# Altium footprint library Connector.PcbLib: 53 footprints (part 2 of 4)
Each footprint in its own frame and in the unit in brackets; x right, y up, seen from the top. Pads: shape width x height; smd on the part's side, far side on the other; paste and mask are expansions set on the pad; w line width, h text height; cw(c..) or ccw(c..) is an arc to the next point about the centre after c.
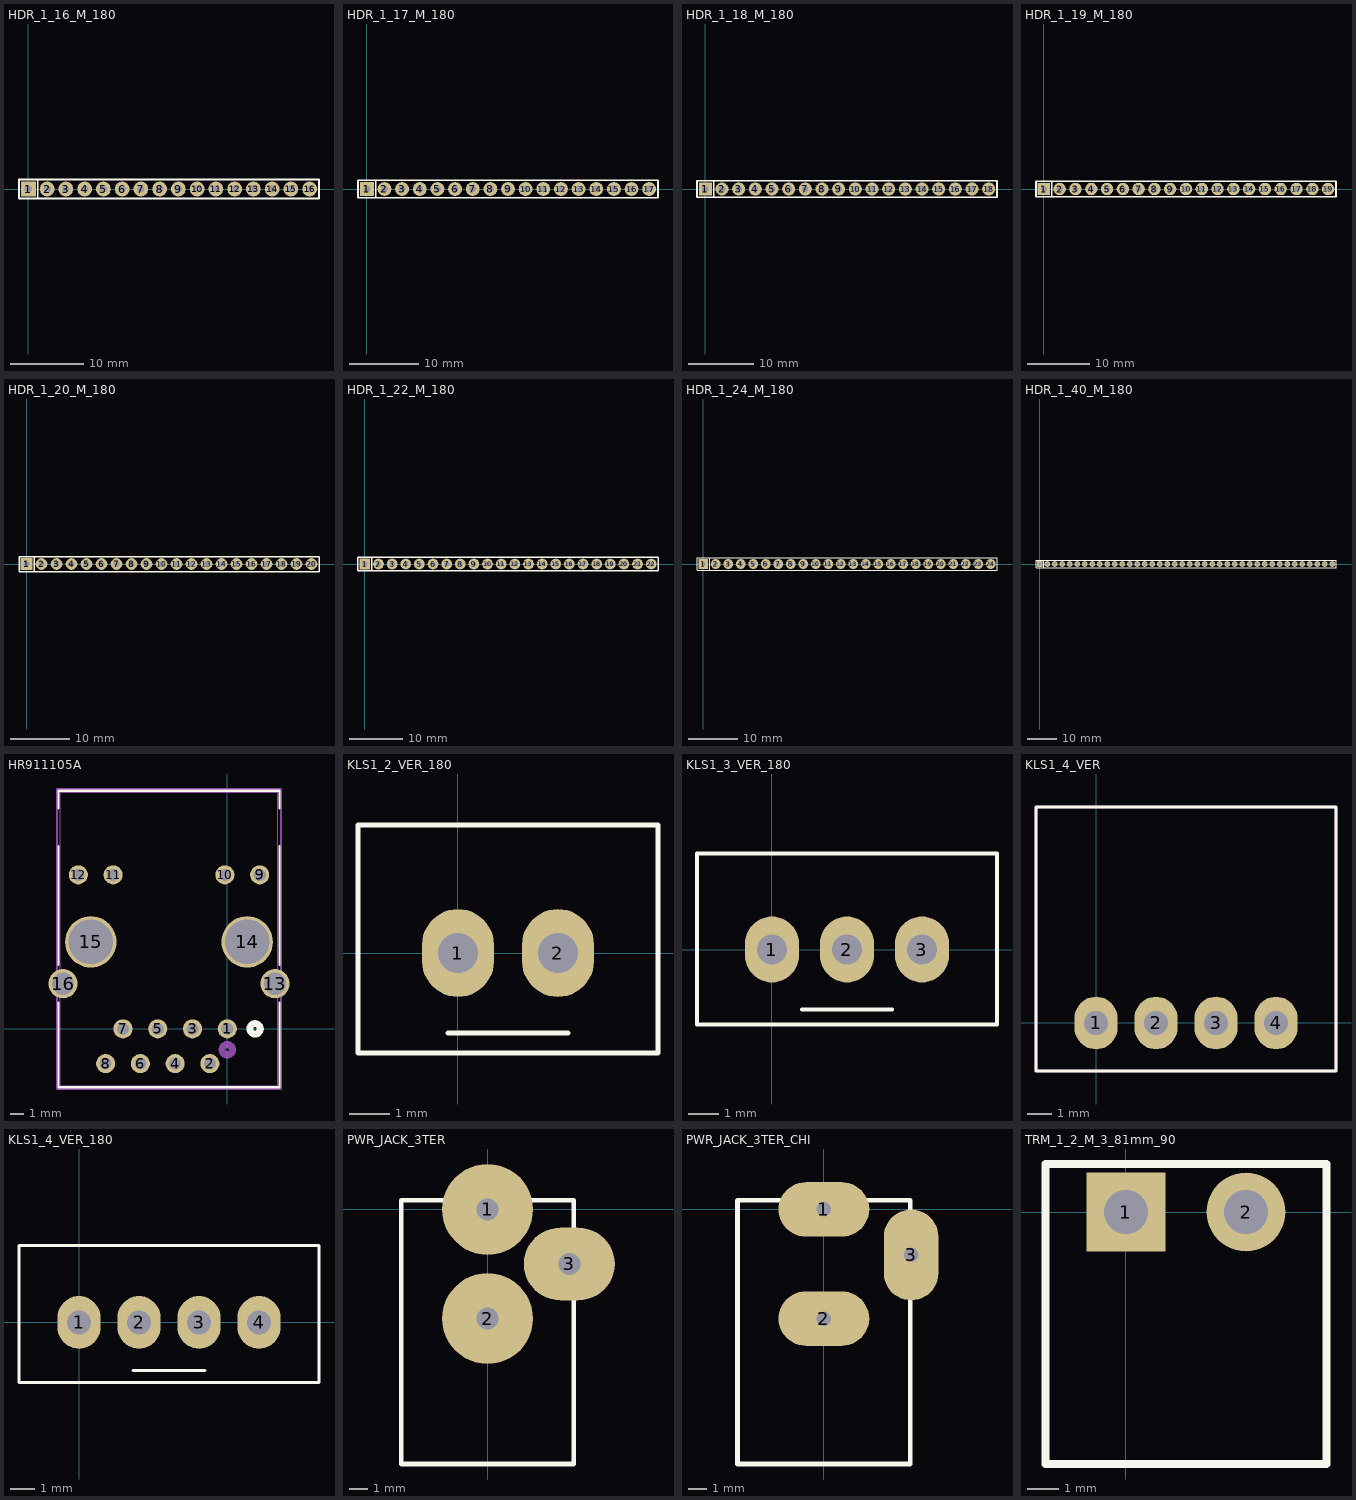
[diagram p1: the footprints below, top view; thin cyan lines are the x and y axes]

## HDR_1_16_M_180 [mm]
pads (16):
  rect 2x2 hole 1: 1(0,0)
  round 2 hole 1: 2(2.54,0) 3(5.08,0) 4(7.62,0) 5(10.16,0) 6(12.7,0) 7(15.24,0) 8(17.78,0) 9(20.32,0) 10(22.86,0) 11(25.4,0) 12(27.94,0) 13(30.48,0) 14(33.02,0) 15(35.56,0) 16(38.1,0)
Top Overlay:
  lines w0.254: 1.27,-1.27 1.27,1.27 ; -1.27,-1.27 39.37,-1.27 39.37,1.27 -1.27,1.27 -1.27,-1.27
3D body "User Library-Header Vertical 2_54mm Pitch2-1.step": height 5.94, standoff -2.94, extent 34.29,-1.27 36.83,1.27
3D body "User Library-Header Vertical 2_54mm Pitch2-1.step": height 5.94, standoff -2.94, extent 31.75,-1.27 34.29,1.27
3D body "User Library-Header Vertical 2_54mm Pitch2-1.step": height 5.94, standoff -2.94, extent 29.21,-1.27 31.75,1.27
3D body "User Library-Header Vertical 2_54mm Pitch2-1.step": height 5.94, standoff -2.94, extent 26.67,-1.27 29.21,1.27
3D body "User Library-Header Vertical 2_54mm Pitch2-1.step": height 5.94, standoff -2.94, extent 24.13,-1.27 26.67,1.27
3D body "User Library-Header Vertical 2_54mm Pitch2-1.step": height 5.94, standoff -2.94, extent 36.83,-1.27 39.37,1.27
3D body "User Library-Header Vertical 2_54mm Pitch2-1.step": height 5.94, standoff -2.94, extent 8.89,-1.27 11.43,1.27
3D body "User Library-Header Vertical 2_54mm Pitch2-1.step": height 5.94, standoff -2.94, extent 6.35,-1.27 8.89,1.27
3D body "User Library-Header Vertical 2_54mm Pitch2-1.step": height 5.94, standoff -2.94, extent 3.81,-1.27 6.35,1.27
3D body "User Library-Header Vertical 2_54mm Pitch2-1.step": height 5.94, standoff -2.94, extent 1.27,-1.27 3.81,1.27
3D body "User Library-Header Vertical 2_54mm Pitch2-1.step": height 5.94, standoff -2.94, extent -1.27,-1.27 1.27,1.27
3D body "User Library-Header Vertical 2_54mm Pitch2-1.step": height 5.94, standoff -2.94, extent 11.43,-1.27 13.97,1.27
3D body "User Library-Header Vertical 2_54mm Pitch2-1.step": height 5.94, standoff -2.94, extent 13.97,-1.27 16.51,1.27
3D body "User Library-Header Vertical 2_54mm Pitch2-1.step": height 5.94, standoff -2.94, extent 16.51,-1.27 19.05,1.27
3D body "User Library-Header Vertical 2_54mm Pitch2-1.step": height 5.94, standoff -2.94, extent 19.05,-1.27 21.59,1.27
3D body "User Library-Header Vertical 2_54mm Pitch2-1.step": height 5.94, standoff -2.94, extent 21.59,-1.27 24.13,1.27

## HDR_1_17_M_180 [mm]
pads (17):
  rect 2x2 hole 1: 1(0,0)
  round 2 hole 1: 2(2.54,0) 3(5.08,0) 4(7.62,0) 5(10.16,0) 6(12.7,0) 7(15.24,0) 8(17.78,0) 9(20.32,0) 10(22.86,0) 11(25.4,0) 12(27.94,0) 13(30.48,0) 14(33.02,0) 15(35.56,0) 16(38.1,0) 17(40.64,0)
Top Overlay:
  lines w0.254: 1.27,-1.27 1.27,1.27 ; -1.27,-1.27 41.91,-1.27 41.91,1.27 -1.27,1.27 -1.27,-1.27
3D body "User Library-Header Vertical 2_54mm Pitch2-1.step": height 5.94, standoff -2.94, extent 34.29,-1.27 36.83,1.27
3D body "User Library-Header Vertical 2_54mm Pitch2-1.step": height 5.94, standoff -2.94, extent 31.75,-1.27 34.29,1.27
3D body "User Library-Header Vertical 2_54mm Pitch2-1.step": height 5.94, standoff -2.94, extent 29.21,-1.27 31.75,1.27
3D body "User Library-Header Vertical 2_54mm Pitch2-1.step": height 5.94, standoff -2.94, extent 26.67,-1.27 29.21,1.27
3D body "User Library-Header Vertical 2_54mm Pitch2-1.step": height 5.94, standoff -2.94, extent 24.13,-1.27 26.67,1.27
3D body "User Library-Header Vertical 2_54mm Pitch2-1.step": height 5.94, standoff -2.94, extent 39.37,-1.27 41.91,1.27
3D body "User Library-Header Vertical 2_54mm Pitch2-1.step": height 5.94, standoff -2.94, extent 36.83,-1.27 39.37,1.27
3D body "User Library-Header Vertical 2_54mm Pitch2-1.step": height 5.94, standoff -2.94, extent 8.89,-1.27 11.43,1.27
3D body "User Library-Header Vertical 2_54mm Pitch2-1.step": height 5.94, standoff -2.94, extent 6.35,-1.27 8.89,1.27
3D body "User Library-Header Vertical 2_54mm Pitch2-1.step": height 5.94, standoff -2.94, extent 3.81,-1.27 6.35,1.27
3D body "User Library-Header Vertical 2_54mm Pitch2-1.step": height 5.94, standoff -2.94, extent 1.27,-1.27 3.81,1.27
3D body "User Library-Header Vertical 2_54mm Pitch2-1.step": height 5.94, standoff -2.94, extent -1.27,-1.27 1.27,1.27
3D body "User Library-Header Vertical 2_54mm Pitch2-1.step": height 5.94, standoff -2.94, extent 11.43,-1.27 13.97,1.27
3D body "User Library-Header Vertical 2_54mm Pitch2-1.step": height 5.94, standoff -2.94, extent 13.97,-1.27 16.51,1.27
3D body "User Library-Header Vertical 2_54mm Pitch2-1.step": height 5.94, standoff -2.94, extent 16.51,-1.27 19.05,1.27
3D body "User Library-Header Vertical 2_54mm Pitch2-1.step": height 5.94, standoff -2.94, extent 19.05,-1.27 21.59,1.27
3D body "User Library-Header Vertical 2_54mm Pitch2-1.step": height 5.94, standoff -2.94, extent 21.59,-1.27 24.13,1.27

## HDR_1_18_M_180 [mm]
pads (18):
  rect 2x2 hole 1: 1(0,0)
  round 2 hole 1: 2(2.54,0) 3(5.08,0) 4(7.62,0) 5(10.16,0) 6(12.7,0) 7(15.24,0) 8(17.78,0) 9(20.32,0) 10(22.86,0) 11(25.4,0) 12(27.94,0) 13(30.48,0) 14(33.02,0) 15(35.56,0) 16(38.1,0) 17(40.64,0) 18(43.18,0)
Top Overlay:
  lines w0.254: 1.27,-1.27 1.27,1.27 ; -1.27,-1.27 -1.27,1.27 44.45,1.27 44.45,-1.27 -1.27,-1.27
3D body "User Library-Header Vertical 2_54mm Pitch2-1.step": height 5.94, standoff -2.94, extent 41.91,-1.27 44.45,1.27
3D body "User Library-Header Vertical 2_54mm Pitch2-1.step": height 5.94, standoff -2.94, extent 21.59,-1.27 24.13,1.27
3D body "User Library-Header Vertical 2_54mm Pitch2-1.step": height 5.94, standoff -2.94, extent 19.05,-1.27 21.59,1.27
3D body "User Library-Header Vertical 2_54mm Pitch2-1.step": height 5.94, standoff -2.94, extent 16.51,-1.27 19.05,1.27
3D body "User Library-Header Vertical 2_54mm Pitch2-1.step": height 5.94, standoff -2.94, extent 13.97,-1.27 16.51,1.27
3D body "User Library-Header Vertical 2_54mm Pitch2-1.step": height 5.94, standoff -2.94, extent 11.43,-1.27 13.97,1.27
3D body "User Library-Header Vertical 2_54mm Pitch2-1.step": height 5.94, standoff -2.94, extent -1.27,-1.27 1.27,1.27
3D body "User Library-Header Vertical 2_54mm Pitch2-1.step": height 5.94, standoff -2.94, extent 1.27,-1.27 3.81,1.27
3D body "User Library-Header Vertical 2_54mm Pitch2-1.step": height 5.94, standoff -2.94, extent 3.81,-1.27 6.35,1.27
3D body "User Library-Header Vertical 2_54mm Pitch2-1.step": height 5.94, standoff -2.94, extent 6.35,-1.27 8.89,1.27
3D body "User Library-Header Vertical 2_54mm Pitch2-1.step": height 5.94, standoff -2.94, extent 8.89,-1.27 11.43,1.27
3D body "User Library-Header Vertical 2_54mm Pitch2-1.step": height 5.94, standoff -2.94, extent 36.83,-1.27 39.37,1.27
3D body "User Library-Header Vertical 2_54mm Pitch2-1.step": height 5.94, standoff -2.94, extent 39.37,-1.27 41.91,1.27
3D body "User Library-Header Vertical 2_54mm Pitch2-1.step": height 5.94, standoff -2.94, extent 24.13,-1.27 26.67,1.27
3D body "User Library-Header Vertical 2_54mm Pitch2-1.step": height 5.94, standoff -2.94, extent 26.67,-1.27 29.21,1.27
3D body "User Library-Header Vertical 2_54mm Pitch2-1.step": height 5.94, standoff -2.94, extent 29.21,-1.27 31.75,1.27
3D body "User Library-Header Vertical 2_54mm Pitch2-1.step": height 5.94, standoff -2.94, extent 31.75,-1.27 34.29,1.27
3D body "User Library-Header Vertical 2_54mm Pitch2-1.step": height 5.94, standoff -2.94, extent 34.29,-1.27 36.83,1.27

## HDR_1_19_M_180 [mm]
pads (19):
  rect 2x2 hole 1: 1(0,0)
  round 2 hole 1: 2(2.54,0) 3(5.08,0) 4(7.62,0) 5(10.16,0) 6(12.7,0) 7(15.24,0) 8(17.78,0) 9(20.32,0) 10(22.86,0) 11(25.4,0) 12(27.94,0) 13(30.48,0) 14(33.02,0) 15(35.56,0) 16(38.1,0) 17(40.64,0) 18(43.18,0) 19(45.72,0)
Top Overlay:
  lines w0.254: 1.27,-1.27 1.27,1.27 ; -1.27,-1.27 -1.27,1.27 46.99,1.27 46.99,-1.27 -1.27,-1.27
3D body "User Library-Header Vertical 2_54mm Pitch2-1.step": height 5.94, standoff -2.94, extent 21.59,-1.27 24.13,1.27
3D body "User Library-Header Vertical 2_54mm Pitch2-1.step": height 5.94, standoff -2.94, extent 19.05,-1.27 21.59,1.27
3D body "User Library-Header Vertical 2_54mm Pitch2-1.step": height 5.94, standoff -2.94, extent 16.51,-1.27 19.05,1.27
3D body "User Library-Header Vertical 2_54mm Pitch2-1.step": height 5.94, standoff -2.94, extent 13.97,-1.27 16.51,1.27
3D body "User Library-Header Vertical 2_54mm Pitch2-1.step": height 5.94, standoff -2.94, extent 11.43,-1.27 13.97,1.27
3D body "User Library-Header Vertical 2_54mm Pitch2-1.step": height 5.94, standoff -2.94, extent -1.27,-1.27 1.27,1.27
3D body "User Library-Header Vertical 2_54mm Pitch2-1.step": height 5.94, standoff -2.94, extent 1.27,-1.27 3.81,1.27
3D body "User Library-Header Vertical 2_54mm Pitch2-1.step": height 5.94, standoff -2.94, extent 3.81,-1.27 6.35,1.27
3D body "User Library-Header Vertical 2_54mm Pitch2-1.step": height 5.94, standoff -2.94, extent 6.35,-1.27 8.89,1.27
3D body "User Library-Header Vertical 2_54mm Pitch2-1.step": height 5.94, standoff -2.94, extent 8.89,-1.27 11.43,1.27
3D body "User Library-Header Vertical 2_54mm Pitch2-1.step": height 5.94, standoff -2.94, extent 36.83,-1.27 39.37,1.27
3D body "User Library-Header Vertical 2_54mm Pitch2-1.step": height 5.94, standoff -2.94, extent 39.37,-1.27 41.91,1.27
3D body "User Library-Header Vertical 2_54mm Pitch2-1.step": height 5.94, standoff -2.94, extent 41.91,-1.27 44.45,1.27
3D body "User Library-Header Vertical 2_54mm Pitch2-1.step": height 5.94, standoff -2.94, extent 44.45,-1.27 46.99,1.27
3D body "User Library-Header Vertical 2_54mm Pitch2-1.step": height 5.94, standoff -2.94, extent 24.13,-1.27 26.67,1.27
3D body "User Library-Header Vertical 2_54mm Pitch2-1.step": height 5.94, standoff -2.94, extent 26.67,-1.27 29.21,1.27
3D body "User Library-Header Vertical 2_54mm Pitch2-1.step": height 5.94, standoff -2.94, extent 29.21,-1.27 31.75,1.27
3D body "User Library-Header Vertical 2_54mm Pitch2-1.step": height 5.94, standoff -2.94, extent 31.75,-1.27 34.29,1.27
3D body "User Library-Header Vertical 2_54mm Pitch2-1.step": height 5.94, standoff -2.94, extent 34.29,-1.27 36.83,1.27

## HDR_1_20_M_180 [mm]
pads (20):
  rect 2x2 hole 1: 1(0,0)
  round 2 hole 1: 2(2.54,0) 3(5.08,0) 4(7.62,0) 5(10.16,0) 6(12.7,0) 7(15.24,0) 8(17.78,0) 9(20.32,0) 10(22.86,0) 11(25.4,0) 12(27.94,0) 13(30.48,0) 14(33.02,0) 15(35.56,0) 16(38.1,0) 17(40.64,0) 18(43.18,0) 19(45.72,0) 20(48.26,0)
Top Overlay:
  lines w0.254: 1.27,-1.27 1.27,1.27 ; -1.27,-1.27 -1.27,1.27 49.53,1.27 49.53,-1.27 -1.27,-1.27
3D body "User Library-Header Vertical 2_54mm Pitch2-1.step": height 5.94, standoff -2.94, extent 21.59,-1.27 24.13,1.27
3D body "User Library-Header Vertical 2_54mm Pitch2-1.step": height 5.94, standoff -2.94, extent 19.05,-1.27 21.59,1.27
3D body "User Library-Header Vertical 2_54mm Pitch2-1.step": height 5.94, standoff -2.94, extent 16.51,-1.27 19.05,1.27
3D body "User Library-Header Vertical 2_54mm Pitch2-1.step": height 5.94, standoff -2.94, extent 13.97,-1.27 16.51,1.27
3D body "User Library-Header Vertical 2_54mm Pitch2-1.step": height 5.94, standoff -2.94, extent 11.43,-1.27 13.97,1.27
3D body "User Library-Header Vertical 2_54mm Pitch2-1.step": height 5.94, standoff -2.94, extent -1.27,-1.27 1.27,1.27
3D body "User Library-Header Vertical 2_54mm Pitch2-1.step": height 5.94, standoff -2.94, extent 1.27,-1.27 3.81,1.27
3D body "User Library-Header Vertical 2_54mm Pitch2-1.step": height 5.94, standoff -2.94, extent 3.81,-1.27 6.35,1.27
3D body "User Library-Header Vertical 2_54mm Pitch2-1.step": height 5.94, standoff -2.94, extent 6.35,-1.27 8.89,1.27
3D body "User Library-Header Vertical 2_54mm Pitch2-1.step": height 5.94, standoff -2.94, extent 8.89,-1.27 11.43,1.27
3D body "User Library-Header Vertical 2_54mm Pitch2-1.step": height 5.94, standoff -2.94, extent 36.83,-1.27 39.37,1.27
3D body "User Library-Header Vertical 2_54mm Pitch2-1.step": height 5.94, standoff -2.94, extent 39.37,-1.27 41.91,1.27
3D body "User Library-Header Vertical 2_54mm Pitch2-1.step": height 5.94, standoff -2.94, extent 41.91,-1.27 44.45,1.27
3D body "User Library-Header Vertical 2_54mm Pitch2-1.step": height 5.94, standoff -2.94, extent 44.45,-1.27 46.99,1.27
3D body "User Library-Header Vertical 2_54mm Pitch2-1.step": height 5.94, standoff -2.94, extent 46.99,-1.27 49.53,1.27
3D body "User Library-Header Vertical 2_54mm Pitch2-1.step": height 5.94, standoff -2.94, extent 24.13,-1.27 26.67,1.27
3D body "User Library-Header Vertical 2_54mm Pitch2-1.step": height 5.94, standoff -2.94, extent 26.67,-1.27 29.21,1.27
3D body "User Library-Header Vertical 2_54mm Pitch2-1.step": height 5.94, standoff -2.94, extent 29.21,-1.27 31.75,1.27
3D body "User Library-Header Vertical 2_54mm Pitch2-1.step": height 5.94, standoff -2.94, extent 31.75,-1.27 34.29,1.27
3D body "User Library-Header Vertical 2_54mm Pitch2-1.step": height 5.94, standoff -2.94, extent 34.29,-1.27 36.83,1.27

## HDR_1_22_M_180 [mm]
pads (22):
  rect 2x2 hole 1: 1(0,0)
  round 2 hole 1: 2(2.54,0) 3(5.08,0) 4(7.62,0) 5(10.16,0) 6(12.7,0) 7(15.24,0) 8(17.78,0) 9(20.32,0) 10(22.86,0) 11(25.4,0) 12(27.94,0) 13(30.48,0) 14(33.02,0) 15(35.56,0) 16(38.1,0) 17(40.64,0) 18(43.18,0) 19(45.72,0) 20(48.26,0) 21(50.8,0) 22(53.34,0)
Top Overlay:
  lines w0.254: 1.27,-1.27 1.27,1.27 ; -1.27,-1.27 -1.27,1.27 54.61,1.27 54.61,-1.27 -1.27,-1.27
3D body "User Library-Header Vertical 2_54mm Pitch2-1.step": height 5.94, standoff -2.94, extent 52.07,-1.27 54.61,1.27
3D body "User Library-Header Vertical 2_54mm Pitch2-1.step": height 5.94, standoff -2.94, extent 49.53,-1.27 52.07,1.27
3D body "User Library-Header Vertical 2_54mm Pitch2-1.step": height 5.94, standoff -2.94, extent 21.59,-1.27 24.13,1.27
3D body "User Library-Header Vertical 2_54mm Pitch2-1.step": height 5.94, standoff -2.94, extent 19.05,-1.27 21.59,1.27
3D body "User Library-Header Vertical 2_54mm Pitch2-1.step": height 5.94, standoff -2.94, extent 16.51,-1.27 19.05,1.27
3D body "User Library-Header Vertical 2_54mm Pitch2-1.step": height 5.94, standoff -2.94, extent 13.97,-1.27 16.51,1.27
3D body "User Library-Header Vertical 2_54mm Pitch2-1.step": height 5.94, standoff -2.94, extent 11.43,-1.27 13.97,1.27
3D body "User Library-Header Vertical 2_54mm Pitch2-1.step": height 5.94, standoff -2.94, extent -1.27,-1.27 1.27,1.27
3D body "User Library-Header Vertical 2_54mm Pitch2-1.step": height 5.94, standoff -2.94, extent 1.27,-1.27 3.81,1.27
3D body "User Library-Header Vertical 2_54mm Pitch2-1.step": height 5.94, standoff -2.94, extent 3.81,-1.27 6.35,1.27
3D body "User Library-Header Vertical 2_54mm Pitch2-1.step": height 5.94, standoff -2.94, extent 6.35,-1.27 8.89,1.27
3D body "User Library-Header Vertical 2_54mm Pitch2-1.step": height 5.94, standoff -2.94, extent 8.89,-1.27 11.43,1.27
3D body "User Library-Header Vertical 2_54mm Pitch2-1.step": height 5.94, standoff -2.94, extent 36.83,-1.27 39.37,1.27
3D body "User Library-Header Vertical 2_54mm Pitch2-1.step": height 5.94, standoff -2.94, extent 39.37,-1.27 41.91,1.27
3D body "User Library-Header Vertical 2_54mm Pitch2-1.step": height 5.94, standoff -2.94, extent 41.91,-1.27 44.45,1.27
3D body "User Library-Header Vertical 2_54mm Pitch2-1.step": height 5.94, standoff -2.94, extent 44.45,-1.27 46.99,1.27
3D body "User Library-Header Vertical 2_54mm Pitch2-1.step": height 5.94, standoff -2.94, extent 46.99,-1.27 49.53,1.27
3D body "User Library-Header Vertical 2_54mm Pitch2-1.step": height 5.94, standoff -2.94, extent 24.13,-1.27 26.67,1.27
3D body "User Library-Header Vertical 2_54mm Pitch2-1.step": height 5.94, standoff -2.94, extent 26.67,-1.27 29.21,1.27
3D body "User Library-Header Vertical 2_54mm Pitch2-1.step": height 5.94, standoff -2.94, extent 29.21,-1.27 31.75,1.27
3D body "User Library-Header Vertical 2_54mm Pitch2-1.step": height 5.94, standoff -2.94, extent 31.75,-1.27 34.29,1.27
3D body "User Library-Header Vertical 2_54mm Pitch2-1.step": height 5.94, standoff -2.94, extent 34.29,-1.27 36.83,1.27

## HDR_1_24_M_180 [mm]
pads (24):
  rect 2x2 hole 1: 1(0,0)
  round 2 hole 1: 2(2.54,0) 3(5.08,0) 4(7.62,0) 5(10.16,0) 6(12.7,0) 7(15.24,0) 8(17.78,0) 9(20.32,0) 10(22.86,0) 11(25.4,0) 12(27.94,0) 13(30.48,0) 14(33.02,0) 15(35.56,0) 16(38.1,0) 17(40.64,0) 18(43.18,0) 19(45.72,0) 20(48.26,0) 21(50.8,0) 22(53.34,0) 23(55.88,0) 24(58.42,0)
Top Overlay:
  lines w0.254: 1.27,-1.27 1.27,1.27 ; -1.27,-1.27 -1.27,1.27 59.69,1.27 59.69,-1.27 -1.27,-1.27
3D body "User Library-Header Vertical 2_54mm Pitch2-1.step": height 5.94, standoff -2.94, extent 49.53,-1.27 52.07,1.27
3D body "User Library-Header Vertical 2_54mm Pitch2-1.step": height 5.94, standoff -2.94, extent 21.59,-1.27 24.13,1.27
3D body "User Library-Header Vertical 2_54mm Pitch2-1.step": height 5.94, standoff -2.94, extent 19.05,-1.27 21.59,1.27
3D body "User Library-Header Vertical 2_54mm Pitch2-1.step": height 5.94, standoff -2.94, extent 16.51,-1.27 19.05,1.27
3D body "User Library-Header Vertical 2_54mm Pitch2-1.step": height 5.94, standoff -2.94, extent 13.97,-1.27 16.51,1.27
3D body "User Library-Header Vertical 2_54mm Pitch2-1.step": height 5.94, standoff -2.94, extent 11.43,-1.27 13.97,1.27
3D body "User Library-Header Vertical 2_54mm Pitch2-1.step": height 5.94, standoff -2.94, extent -1.27,-1.27 1.27,1.27
3D body "User Library-Header Vertical 2_54mm Pitch2-1.step": height 5.94, standoff -2.94, extent 1.27,-1.27 3.81,1.27
3D body "User Library-Header Vertical 2_54mm Pitch2-1.step": height 5.94, standoff -2.94, extent 3.81,-1.27 6.35,1.27
3D body "User Library-Header Vertical 2_54mm Pitch2-1.step": height 5.94, standoff -2.94, extent 6.35,-1.27 8.89,1.27
3D body "User Library-Header Vertical 2_54mm Pitch2-1.step": height 5.94, standoff -2.94, extent 8.89,-1.27 11.43,1.27
3D body "User Library-Header Vertical 2_54mm Pitch2-1.step": height 5.94, standoff -2.94, extent 36.83,-1.27 39.37,1.27
3D body "User Library-Header Vertical 2_54mm Pitch2-1.step": height 5.94, standoff -2.94, extent 39.37,-1.27 41.91,1.27
3D body "User Library-Header Vertical 2_54mm Pitch2-1.step": height 5.94, standoff -2.94, extent 41.91,-1.27 44.45,1.27
3D body "User Library-Header Vertical 2_54mm Pitch2-1.step": height 5.94, standoff -2.94, extent 44.45,-1.27 46.99,1.27
3D body "User Library-Header Vertical 2_54mm Pitch2-1.step": height 5.94, standoff -2.94, extent 46.99,-1.27 49.53,1.27
3D body "User Library-Header Vertical 2_54mm Pitch2-1.step": height 5.94, standoff -2.94, extent 24.13,-1.27 26.67,1.27
3D body "User Library-Header Vertical 2_54mm Pitch2-1.step": height 5.94, standoff -2.94, extent 26.67,-1.27 29.21,1.27
3D body "User Library-Header Vertical 2_54mm Pitch2-1.step": height 5.94, standoff -2.94, extent 29.21,-1.27 31.75,1.27
3D body "User Library-Header Vertical 2_54mm Pitch2-1.step": height 5.94, standoff -2.94, extent 31.75,-1.27 34.29,1.27
3D body "User Library-Header Vertical 2_54mm Pitch2-1.step": height 5.94, standoff -2.94, extent 34.29,-1.27 36.83,1.27
3D body "User Library-Header Vertical 2_54mm Pitch2-1.step": height 5.94, standoff -2.94, extent 54.61,-1.27 57.15,1.27
3D body "User Library-Header Vertical 2_54mm Pitch2-1.step": height 5.94, standoff -2.94, extent 52.07,-1.27 54.61,1.27
3D body "User Library-Header Vertical 2_54mm Pitch2-1.step": height 5.94, standoff -2.94, extent 57.15,-1.27 59.69,1.27

## HDR_1_40_M_180 [mm]
pads (40):
  rect 2x2 hole 1: 1(0,0)
  round 2 hole 1: 2(2.54,0) 3(5.08,0) 4(7.62,0) 5(10.16,0) 6(12.7,0) 7(15.24,0) 8(17.78,0) 9(20.32,0) 10(22.86,0) 11(25.4,0) 12(27.94,0) 13(30.48,0) 14(33.02,0) 15(35.56,0) 16(38.1,0) 17(40.64,0) 18(43.18,0) 19(45.72,0) 20(48.26,0) 21(50.8,0) 22(53.34,0) 23(55.88,0) 24(58.42,0) 25(60.96,0) 26(63.5,0) 27(66.04,0) 28(68.58,0) 29(71.12,0) 30(73.66,0) 31(76.2,0) 32(78.74,0) 33(81.28,0) 34(83.82,0) 35(86.36,0) 36(88.9,0) 37(91.44,0) 38(93.98,0) 39(96.52,0) 40(99.06,0)
Top Overlay:
  lines w0.254: 1.27,-1.27 1.27,1.27 ; -1.27,-1.27 -1.27,1.27 100.33,1.27 100.33,-1.27 -1.27,-1.27
3D body "User Library-Header Vertical 2_54mm Pitch2-1.step": height 5.94, standoff -2.94, extent 49.53,-1.27 52.07,1.27
3D body "User Library-Header Vertical 2_54mm Pitch2-1.step": height 5.94, standoff -2.94, extent 97.79,-1.27 100.33,1.27
3D body "User Library-Header Vertical 2_54mm Pitch2-1.step": height 5.94, standoff -2.94, extent 95.25,-1.27 97.79,1.27
3D body "User Library-Header Vertical 2_54mm Pitch2-1.step": height 5.94, standoff -2.94, extent 92.71,-1.27 95.25,1.27
3D body "User Library-Header Vertical 2_54mm Pitch2-1.step": height 5.94, standoff -2.94, extent 90.17,-1.27 92.71,1.27
3D body "User Library-Header Vertical 2_54mm Pitch2-1.step": height 5.94, standoff -2.94, extent 87.63,-1.27 90.17,1.27
3D body "User Library-Header Vertical 2_54mm Pitch2-1.step": height 5.94, standoff -2.94, extent 85.09,-1.27 87.63,1.27
3D body "User Library-Header Vertical 2_54mm Pitch2-1.step": height 5.94, standoff -2.94, extent 82.55,-1.27 85.09,1.27
3D body "User Library-Header Vertical 2_54mm Pitch2-1.step": height 5.94, standoff -2.94, extent 80.01,-1.27 82.55,1.27
3D body "User Library-Header Vertical 2_54mm Pitch2-1.step": height 5.94, standoff -2.94, extent 77.47,-1.27 80.01,1.27
3D body "User Library-Header Vertical 2_54mm Pitch2-1.step": height 5.94, standoff -2.94, extent 74.93,-1.27 77.47,1.27
3D body "User Library-Header Vertical 2_54mm Pitch2-1.step": height 5.94, standoff -2.94, extent 72.39,-1.27 74.93,1.27
3D body "User Library-Header Vertical 2_54mm Pitch2-1.step": height 5.94, standoff -2.94, extent 69.85,-1.27 72.39,1.27
3D body "User Library-Header Vertical 2_54mm Pitch2-1.step": height 5.94, standoff -2.94, extent 67.31,-1.27 69.85,1.27
3D body "User Library-Header Vertical 2_54mm Pitch2-1.step": height 5.94, standoff -2.94, extent 64.77,-1.27 67.31,1.27
3D body "User Library-Header Vertical 2_54mm Pitch2-1.step": height 5.94, standoff -2.94, extent 62.23,-1.27 64.77,1.27
3D body "User Library-Header Vertical 2_54mm Pitch2-1.step": height 5.94, standoff -2.94, extent 59.69,-1.27 62.23,1.27
3D body "User Library-Header Vertical 2_54mm Pitch2-1.step": height 5.94, standoff -2.94, extent 57.15,-1.27 59.69,1.27
3D body "User Library-Header Vertical 2_54mm Pitch2-1.step": height 5.94, standoff -2.94, extent 54.61,-1.27 57.15,1.27
3D body "User Library-Header Vertical 2_54mm Pitch2-1.step": height 5.94, standoff -2.94, extent 52.07,-1.27 54.61,1.27
3D body "User Library-Header Vertical 2_54mm Pitch2-1.step": height 5.94, standoff -2.94, extent 21.59,-1.27 24.13,1.27
3D body "User Library-Header Vertical 2_54mm Pitch2-1.step": height 5.94, standoff -2.94, extent 19.05,-1.27 21.59,1.27
3D body "User Library-Header Vertical 2_54mm Pitch2-1.step": height 5.94, standoff -2.94, extent 16.51,-1.27 19.05,1.27
3D body "User Library-Header Vertical 2_54mm Pitch2-1.step": height 5.94, standoff -2.94, extent 13.97,-1.27 16.51,1.27
3D body "User Library-Header Vertical 2_54mm Pitch2-1.step": height 5.94, standoff -2.94, extent 11.43,-1.27 13.97,1.27
3D body "User Library-Header Vertical 2_54mm Pitch2-1.step": height 5.94, standoff -2.94, extent -1.27,-1.27 1.27,1.27
3D body "User Library-Header Vertical 2_54mm Pitch2-1.step": height 5.94, standoff -2.94, extent 1.27,-1.27 3.81,1.27
3D body "User Library-Header Vertical 2_54mm Pitch2-1.step": height 5.94, standoff -2.94, extent 3.81,-1.27 6.35,1.27
3D body "User Library-Header Vertical 2_54mm Pitch2-1.step": height 5.94, standoff -2.94, extent 6.35,-1.27 8.89,1.27
3D body "User Library-Header Vertical 2_54mm Pitch2-1.step": height 5.94, standoff -2.94, extent 8.89,-1.27 11.43,1.27
3D body "User Library-Header Vertical 2_54mm Pitch2-1.step": height 5.94, standoff -2.94, extent 36.83,-1.27 39.37,1.27
3D body "User Library-Header Vertical 2_54mm Pitch2-1.step": height 5.94, standoff -2.94, extent 39.37,-1.27 41.91,1.27
3D body "User Library-Header Vertical 2_54mm Pitch2-1.step": height 5.94, standoff -2.94, extent 41.91,-1.27 44.45,1.27
3D body "User Library-Header Vertical 2_54mm Pitch2-1.step": height 5.94, standoff -2.94, extent 44.45,-1.27 46.99,1.27
3D body "User Library-Header Vertical 2_54mm Pitch2-1.step": height 5.94, standoff -2.94, extent 46.99,-1.27 49.53,1.27
3D body "User Library-Header Vertical 2_54mm Pitch2-1.step": height 5.94, standoff -2.94, extent 24.13,-1.27 26.67,1.27
3D body "User Library-Header Vertical 2_54mm Pitch2-1.step": height 5.94, standoff -2.94, extent 26.67,-1.27 29.21,1.27
3D body "User Library-Header Vertical 2_54mm Pitch2-1.step": height 5.94, standoff -2.94, extent 29.21,-1.27 31.75,1.27
3D body "User Library-Header Vertical 2_54mm Pitch2-1.step": height 5.94, standoff -2.94, extent 31.75,-1.27 34.29,1.27
3D body "User Library-Header Vertical 2_54mm Pitch2-1.step": height 5.94, standoff -2.94, extent 34.29,-1.27 36.83,1.27

## HR911105A [mil]
pads (16):
  round 55 hole 35 mask+0: 1(0,0) 2(-50,-100) 3(-100,0) 4(-150,-100) 5(-200,0) 6(-250,-100) 7(-300,0) 8(-350,-100) 9(93.19,442.91) 10(-6.81,442.91) 11(-328.46,442.91) 12(-428.46,442.91)
  round 84 hole 64: 13(137.28,129.92) 16(-472.56,129.92)
  round 148 hole 128: 14(57.36,250) 15(-392.64,250)
Top Overlay:
  circle w20: c80,0 r15
  lines w6: -485.14,76.28 -485.14,-168.08 149.86,-168.08 149.86,76.28 ; -485.14,183.57 -485.14,526.28 ; -485.14,633.57 -485.14,684.92 149.86,684.92 149.86,633.57 ; 149.86,183.57 149.86,526.28
Bottom Overlay:
  circle w20: c70,0 r15
Mechanical 13:
  circle w20: c0,-60 r15
  lines w1: -480.14,-163.08 -480.14,679.92 144.86,679.92 144.86,-163.08 -480.14,-163.08
Mechanical 15:
  lines w6: -490.14,-173.08 154.86,-173.08 154.86,689.92 -490.14,689.92 -490.14,-173.08
3D body "HR911105A.step": height 550, standoff -99.61, extent -485.2,-161.26 140,681.26
3D body: height 10, standoff 0, extent 0,0 10,10

## KLS1_2_VER_180 [mm]
pads (2):
  oval 1.8x2.2 hole 1: 1(0,0) 2(2.5,0)
Top Overlay:
  lines w0.127: -0.25,-2 2.75,-2 ; -2.5,-2.5 5,-2.5 5,3.2 -2.5,3.2 -2.5,-2.5

## KLS1_3_VER_180 [mm]
pads (3):
  oval 1.8x2.2 hole 1: 1(0,0) 2(2.5,0) 3(5,0)
Top Overlay:
  lines w0.127: 1,-2 4,-2 ; -2.5,-2.5 7.5,-2.5 7.5,3.2 -2.5,3.2 -2.5,-2.5

## KLS1_4_VER [mm]
pads (4):
  oval 1.8x2.2 hole 1: 1(0,0) 2(2.5,0) 3(5,0) 4(7.5,0)
Top Overlay:
  lines w0.127: -2.5,-2 10,-2 10,9 -2.5,9 -2.5,-2
Mechanical 15:
  lines w0.127: -2.5,-2 10,-2 10,9 -2.5,9 -2.5,-2
3D body: height 5.5, standoff 0, extent -2.5,-2 10,9

## KLS1_4_VER_180 [mm]
pads (4):
  oval 1.8x2.2 hole 1: 1(0,0) 2(2.5,0) 3(5,0) 4(7.5,0)
Top Overlay:
  lines w0.127: 2.25,-2 5.25,-2 ; -2.5,-2.5 10,-2.5 10,3.2 -2.5,3.2 -2.5,-2.5

## PWR_JACK_3TER [mm]
pads (3):
  round 5 hole 1.2 square: 1(0,0) 2(0,-6)
  oval 5x4 hole 1.2 square: 3(4.5,-3)
Top Overlay:
  lines w0.254: -4.75,-14 4.75,-14 4.75,0 4.75,0.5 4.5,0.5 -4.5,0.5 -4.75,0.5 -4.75,0 -4.75,-14
3D body "PJ-002B.stp": height 11.5, standoff -3, extent -4.7,-13.95 4.7,0.45

## PWR_JACK_3TER_CHI [mm]
pads (3):
  oval 5x3 hole 0.8 square: 1(0,0) 2(0,-6)
  oval 3x5 hole 0.8 square: 3(4.8,-2.5)
Top Overlay:
  lines w0.254: -4.75,-14 4.75,-14 4.75,0 4.75,0.5 4.5,0.5 -4.5,0.5 -4.75,0.5 -4.75,0 -4.75,-14
3D body "PJ-002B.stp": height 11.5, standoff -3, extent -4.7,-13.95 4.7,0.45

## TRM_1_2_M_3_81mm_90 [mm]
height 7
pads (2):
  rect 2.5x2.5 hole 1.4: 1(0,0)
  round 2.5 hole 1.4: 2(3.81,0)
Top Overlay:
  lines w0.254: -2.554,-8 -2.554,1.524 ; -2.54,-8 6.364,-8 6.364,1.524 -2.54,1.524
3D body "Terminal Blocks Pluggable socket, right angle, 3.81 mm pitch, 2 position.stp": height 7.71, standoff -3.41, extent -2.5,-7.747 6.31,1.453